# Altium footprint library DS1813-5.PcbLib: 1 footprints
Each footprint in its own frame and in the unit in brackets; x right, y up, seen from the top. Pads: shape width x height; smd on the part's side, far side on the other; paste and mask are expansions set on the pad; w line width, h text height; cw(c..) or ccw(c..) is an arc to the next point about the centre after c.
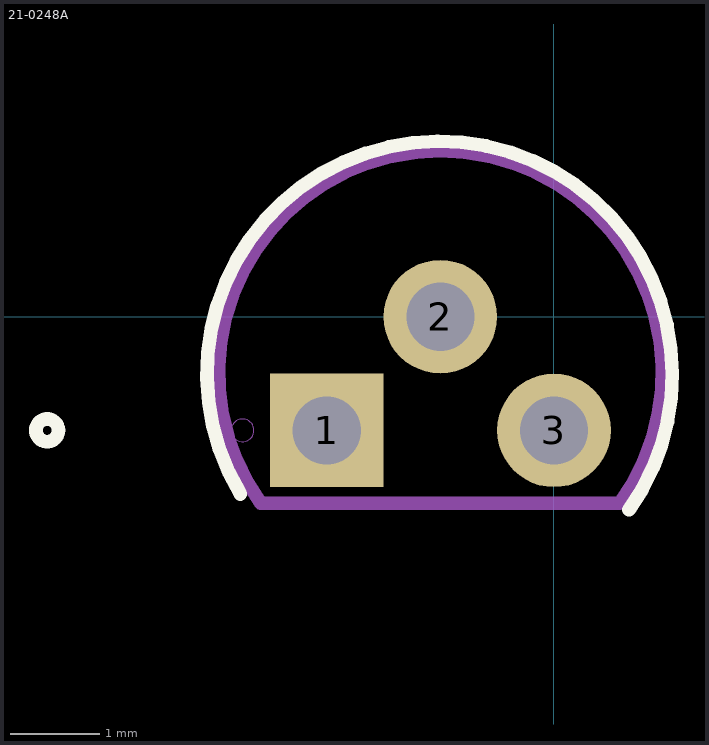
[diagram p0: the footprint, top view; thin cyan lines are the x and y axes]

## 21-0248A [mil]
pads (3):
  rect 50x50 hole 30: 1(-100,-50)
  round 50 hole 30: 2(-50,0) 3(0,-50)
F.SilkS:
  lines w6: -138,-78 cw(c-50.35,-25.15) 52,-25 cw(c-49.83,-25.76) 33,-85 ; -228,-50 ccw(c-223,-50) -218,-50 ccw(c-223,-50) -228,-50
F.Fab:
  lines w0: -142,-50 ccw(c-137,-50) -132,-50 ccw(c-137,-50) -142,-50
  lines w6: -129,-82 29,-82 ccw(c-50,-24.6) -129,-82